# EAGLE library part HIROSE-DF40C-10DS-0.4V (library headers)
CONN RCPT 10POS 0.4MM SMD GOLD
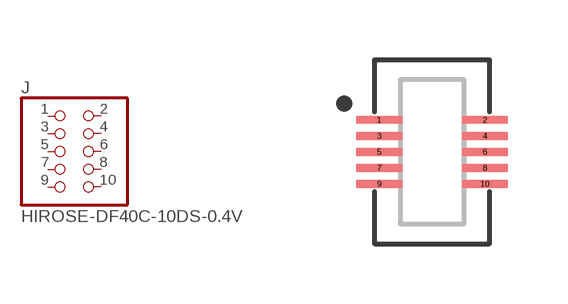
[diagram p13: symbol with the pads of DF40C-10DS-0.4V; footprint DF40C-10DS-0.4V]

Designator prefix J

## HIROSE-DF40C-10DS-0.4V (DIGIKEY: H11617CT-ND)  [DF40C-10DS-0.4V]
1  1  pas
2  2  pas
3  3  pas
4  4  pas
5  5  pas
6  6  pas
7  7  pas
8  8  pas
9  9  pas
10  10  pas

## Footprint DF40C-10DS-0.4V (pad centres in mm)
smd 1.14 x 0.2: 1 -1.32,0.8; 2 1.32,0.8; 3 -1.32,0.4; 4 1.32,0.4; 5 -1.32,0; 6 1.32,0; 7 -1.32,-0.4; 8 1.32,-0.4; 9 -1.32,-0.8; 10 1.32,-0.8